# Altium schematic symbol library Sch.SchLib: 1 symbol
Pins are listed as number, name and electrical type; pins without a type are passive.

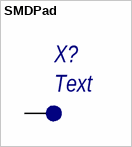
[diagram p0: symbol SMDPad]

## SMDPad
designator X?, comment Text  (no BOM)
Type: Точка пайки
footprint SMDPad_4.0
pins: 1